# EAGLE library part ESP8266-12E (library FansElectronics-Modul)
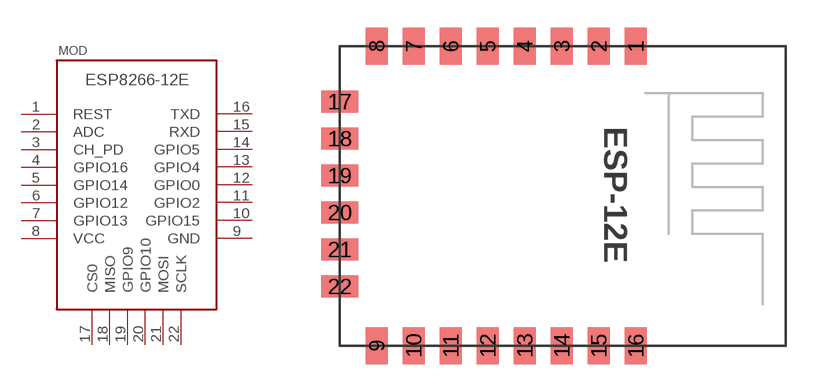
[diagram p3: symbol with the pads of ESP8266-12E; footprint ESP8266-12E]

Designator prefix MOD

## ESP8266-12E  [ESP8266-12E]
1  REST
2  ADC
3  CH_PD
4  GPIO16
5  GPIO14
6  GPIO12
7  GPIO13
8  VCC
9  GND
10  GPIO15
11  GPIO2
12  GPIO0
13  GPIO4
14  GPIO5
15  RXD
16  TXD
17  CS0
18  MISO
19  GPIO9
20  GPIO10
21  MOSI
22  SCLK

## Footprint ESP8266-12E (pad centres in mm)
smd 1.2 x 2: 1 7.11,8.89; 2 5.11,8.89; 3 3.11,8.89; 4 1.11,8.89; 5 -0.89,8.89; 6 -2.89,8.89; 7 -4.89,8.89; 8 -6.89,8.89; 9 -6.89,-7.31; 10 -4.89,-7.31; 11 -2.89,-7.31; 12 -0.89,-7.31; 13 1.11,-7.31; 14 3.11,-7.31; 15 5.11,-7.31; 16 7.11,-7.31
smd 2 x 1.2: 17 -8.89,5.89; 18 -8.89,3.89; 19 -8.89,1.89; 20 -8.89,-0.11; 21 -8.89,-2.11; 22 -8.89,-4.11